# Altium schematic symbol library lib_ic_RES.SchLib: 25 symbols
Pins are listed as number, name and electrical type; pins without a type are passive.

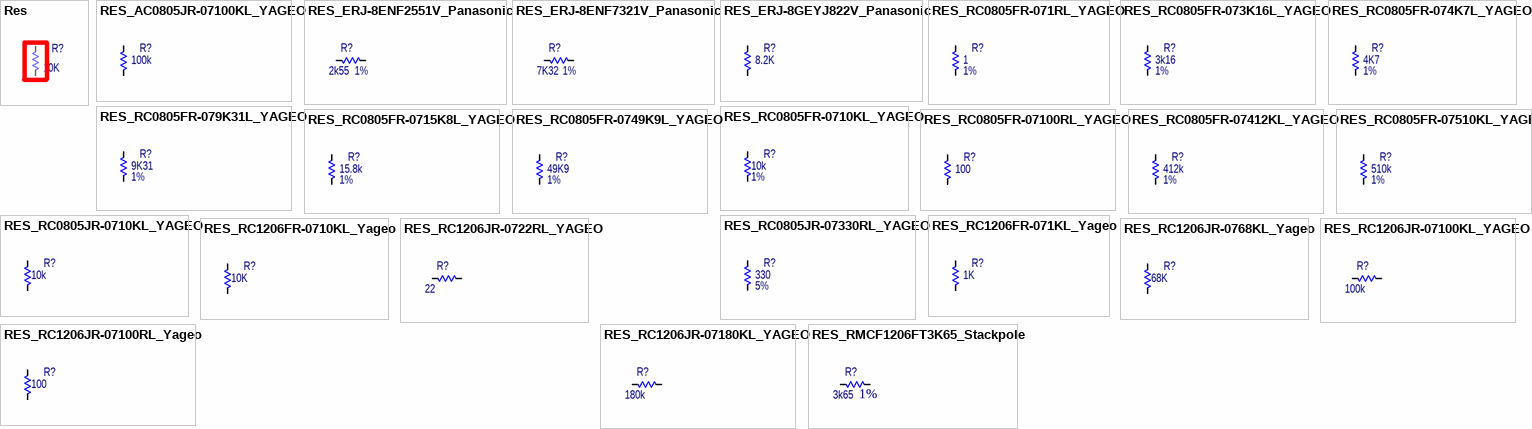
[diagram p0: symbols Res to RES_RMCF1206FT3K65_Stackpole]

## Res
designator R?  value 10K  (hidden comment: *)
Res; Manufacturer: Yageo; Tolerance: 1%; Power Rating: 1/4W; BOM Populate: *; Supplier Part No: *; Supplier: *; Digikey Part Number: 311-10.0KFRCT-ND
footprint RESC2013X065BN (Chip Resistor, 0805, Body 2.0x1.3mm, Pads modified for 1mm spacing.)
pins: 1 T1, 2 T2

## RES_AC0805JR-07100KL_YAGEO
designator R?  value 100k  (hidden comment: *)
RES SMD 100K OHM 5% 1/8W 0805; Manufacturer: Yageo; Manufacturer Part Number: AC0805JR-07100KL; BOM Populate: *; Supplier Part No: *; Supplier: *; Tolerance: 5%; Digikey Part Number: YAG3756CT-ND; Power Rating: 1/8W; Mouser Part Number: 603-AC0805JR-07100KL
footprint RESC2013X065BN (Chip Resistor, 0805, Body 2.0x1.3mm, Pads modified for 1mm spacing.)
pins: 1 T1, 2 T2

## RES_ERJ-8ENF2551V_Panasonic
designator R?  value 2k55  Tolerance: 1%  (hidden comment: *)
RES SMD 2.55K OHM 1% 1/4W 1206; Manufacturer: Panasonic; Manufacturer Part Number: ERJ-8ENF2551V; BOM Populate: *; Supplier Part No: *; Supplier: *; Digikey Part Number: P2.55KFCT-ND; Power Rating: 1/4W; Mouser Part Number: 667-ERJ-8ENF2551V
footprint RESC3216N (Chip Resistor, Body 3.2x1.6mm, IPC Medium Density)
pins: 1 T1, 2 T2

## RES_ERJ-8ENF7321V_Panasonic
designator R?  value 7K32  Tolerance: 1%  (hidden comment: *)
RES SMD 7.32K OHM 1% 1/4W 1206; Manufacturer: Panasonic; Manufacturer Part Number: ERJ-8ENF7321V; BOM Populate: *; Supplier Part No: *; Supplier: *; Digikey Part Number: P7.32KFCT-ND; Power Rating: 1/4W; Mouser Part Number: 667-ERJ-8ENF7321V
footprint RESC3216N (Chip Resistor, Body 3.2x1.6mm, IPC Medium Density)
pins: 1 T1, 2 T2

## RES_ERJ-8GEYJ822V_Panasonic
designator R?  value 8.2K  (hidden comment: *)
RES SMD 8.2K OHM 5% 1/4W 1206; Manufacturer: Panasonic; Manufacturer Part Number: ERJ-8GEYJ822V; BOM Populate: *; Supplier Part No: *; Supplier: *; Tolerance: 5%; Digikey Part Number: P8.2KECT-ND; Power Rating: 1/4W; Mouser Part Number: 667-ERJ-8GEYJ822V
footprint RESC3216N (Chip Resistor, Body 3.2x1.6mm, IPC Medium Density)
pins: 1 T1, 2 T2

## RES_RC0805FR-071RL_YAGEO
designator R?  value 1  Tolerance: 1%  (hidden comment: *)
RES SMD 1 OHM 1% 1/8W 0805; Manufacturer: Yageo; Manufacturer Part Number: RC0805FR-071RL; BOM Populate: *; Supplier Part No: *; Supplier: *; Digikey Part Number: 311-1.00CRCT-ND; Power Rating: 1/8W; Mouser Part Number: 603-RC0805FR-071RL
footprint RESC2013X065BN (Chip Resistor, 0805, Body 2.0x1.3mm, Pads modified for 1mm spacing.)
pins: 1 T1, 2 T2

## RES_RC0805FR-073K16L_YAGEO
designator R?  value 3k16  Tolerance: 1%  (hidden comment: *)
RES SMD 3.16K OHM 1% 1/8W 0805; Manufacturer: Yageo; Manufacturer Part Number: RC0805FR-073K16L; BOM Populate: *; Supplier Part No: *; Supplier: *; Digikey Part Number: 311-3.16KCRCT-ND; Power Rating: 1/8W; Mouser Part Number: 603-RC0805FR-073K16L
footprint RESC2013X065BN (Chip Resistor, 0805, Body 2.0x1.3mm, Pads modified for 1mm spacing.)
pins: 1 T1, 2 T2

## RES_RC0805FR-074K7L_YAGEO
designator R?  value 4K7  Tolerance: 1%  (hidden comment: *)
RES SMD 4.7K OHM 1% 1/8W 0805; Manufacturer: Yageo; Manufacturer Part Number: RC0805FR-074K7L; BOM Populate: *; Supplier Part No: *; Supplier: *; Digikey Part Number: 311-4.70KCRCT-ND; Power Rating: 1/8W; Mouser Part Number: 603-RC0805FR-074K7L
footprint RESC2013X065BN (Chip Resistor, 0805, Body 2.0x1.3mm, Pads modified for 1mm spacing.)
pins: 1 T1, 2 T2

## RES_RC0805FR-079K31L_YAGEO
designator R?  value 9K31  Tolerance: 1%  (hidden comment: *)
RES SMD 9.31K OHM 1% 1/8W 0805; Manufacturer: Yageo; Manufacturer Part Number: RC0805FR-079K31L; BOM Populate: *; Supplier Part No: *; Supplier: *; Digikey Part Number: 311-9.31KCRCT-ND; Power Rating: 1/8W; Mouser Part Number: 603-RC0805FR-079K31L
footprint RESC2013X065BN (Chip Resistor, 0805, Body 2.0x1.3mm, Pads modified for 1mm spacing.)
pins: 1 T1, 2 T2

## RES_RC0805FR-0710KL_YAGEO
designator R?  value 10k  Tolerance: 1%  (hidden comment: *)
RES SMD 10K OHM 1% 1/8W 0805; Manufacturer: Yageo; Manufacturer Part Number: RC0805FR-0710KL; BOM Populate: *; Supplier Part No: *; Supplier: *; Digikey Part Number: 311-10.0KCRCT-ND; Power Rating: 1/8W; Mouser Part Number: 603-RC0805FR-0710KL
footprint RESC2013X065BN (Chip Resistor, 0805, Body 2.0x1.3mm, Pads modified for 1mm spacing.)
pins: 1 T1, 2 T2

## RES_RC0805FR-0715K8L_YAGEO
designator R?  value 15.8k  Tolerance: 1%  (hidden comment: *)
RES SMD 15.8K OHM 1% 1/8W 0805; Manufacturer: Yageo; Manufacturer Part Number: RC0805FR-0715K8L; BOM Populate: *; Supplier Part No: *; Supplier: *; Digikey Part Number: 311-15.8KCRCT-ND; Power Rating: 1/8W; Mouser Part Number: 603-RC0805FR-0715K8L
footprint RESC2013X065BN (Chip Resistor, 0805, Body 2.0x1.3mm, Pads modified for 1mm spacing.)
pins: 1 T1, 2 T2

## RES_RC0805FR-0749K9L_YAGEO
designator R?  value 49K9  Tolerance: 1%  (hidden comment: *)
RES SMD 49.9K OHM 1% 1/8W 0805; Manufacturer: Yageo; Manufacturer Part Number: RC0805FR-0749K9L; BOM Populate: *; Supplier Part No: *; Supplier: *; Digikey Part Number: 311-49.9KCRCT-ND; Power Rating: 1/8W; Mouser Part Number: 603-RC0805FR-0749K9L
footprint RESC2013X065BN (Chip Resistor, 0805, Body 2.0x1.3mm, Pads modified for 1mm spacing.)
pins: 1 T1, 2 T2

## RES_RC0805FR-07100RL_YAGEO
designator R?  value 100  (hidden comment: *)
RES SMD 100 OHM 1% 1/8W 0805; Manufacturer: Yageo; Manufacturer Part Number: RC0805FR-07100RL; BOM Populate: *; Supplier Part No: *; Supplier: *; Tolerance: 1%; Digikey Part Number: 311-100CRCT-ND; Power Rating: 1/8W; Mouser Part Number: 603-RC0805FR-07100RL
footprint RESC2013X065BN (Chip Resistor, 0805, Body 2.0x1.3mm, Pads modified for 1mm spacing.)
pins: 1 T1, 2 T2

## RES_RC0805FR-07412KL_YAGEO
designator R?  value 412k  Tolerance: 1%  (hidden comment: *)
RES SMD 412K OHM 1% 1/8W 0805; Manufacturer: Yageo; Manufacturer Part Number: RC0805FR-07412KL; BOM Populate: *; Supplier Part No: *; Supplier: *; Digikey Part Number: 311-412KCRCT-ND; Power Rating: 1/8W; Mouser Part Number: 603-RC0805FR-07412KL
footprint RESC2013X065BN (Chip Resistor, 0805, Body 2.0x1.3mm, Pads modified for 1mm spacing.)
pins: 1 T1, 2 T2

## RES_RC0805FR-07510KL_YAGEO
designator R?  value 510k  Tolerance: 1%  (hidden comment: *)
RES SMD 510K OHM 1% 1/8W 0805; Manufacturer: Yageo; Manufacturer Part Number: RC0805FR-07510KL; BOM Populate: *; Supplier Part No: *; Supplier: *; Digikey Part Number: 311-510KCRCT-ND; Power Rating: 1/8W; Mouser Part Number: 603-RC0805FR-07510KL
footprint RESC2013X065BN (Chip Resistor, 0805, Body 2.0x1.3mm, Pads modified for 1mm spacing.)
pins: 1 T1, 2 T2

## RES_RC0805JR-0710KL_YAGEO
designator R?  value 10k  (hidden comment: *)
RES SMD 10K OHM 5% 1/8W 0805; Manufacturer: Yageo; Manufacturer Part Number: RC0805JR-0710KL; BOM Populate: *; Supplier Part No: *; Supplier: *; Tolerance: 5%; Digikey Part Number: 311-10KARCT-ND; Power Rating: 1/8W; Mouser Part Number: 603-RC0805JR-0710KL
footprint RESC2013X065BN (Chip Resistor, 0805, Body 2.0x1.3mm, Pads modified for 1mm spacing.)
pins: 1 T1, 2 T2

## RES_RC0805JR-07330RL_YAGEO
designator R?  value 330  Tolerance: 5%  (hidden comment: *)
RES SMD 330 OHM 5% 1/8W 0805; Manufacturer: Yageo; Manufacturer Part Number: RC0805JR-07330RL; BOM Populate: *; Supplier Part No: *; Supplier: *; Digikey Part Number: 311-330ARCT-ND; Power Rating: 1/8W; Mouser Part Number: 603-RC0805JR-07330RL
footprint RESC2013X065BN (Chip Resistor, 0805, Body 2.0x1.3mm, Pads modified for 1mm spacing.)
pins: 1 T1, 2 T2

## RES_RC1206FR-071KL_Yageo
designator R?  value 1K  (hidden comment: *)
RES SMD 1K OHM 1% 1/4W 1206; Manufacturer: Yageo; Manufacturer Part Number: RC1206FR-071KL; BOM Populate: *; Supplier Part No: *; Supplier: *; Tolerance: 1%; Digikey Part Number: 311-1.00KFRCT-ND; Power Rating: 1/4W; Mouser Part Number: 603-RC1206FR-071KL
footprint RESC3216N (Chip Resistor, Body 3.2x1.6mm, IPC Medium Density)
pins: 1 T1, 2 T2

## RES_RC1206FR-0710KL_Yageo
designator R?  value 10K  (hidden comment: *)
RES SMD 10K OHM 1% 1/4W 1206; Manufacturer: Yageo; Manufacturer Part Number: RC1206FR-0710KL; BOM Populate: *; Supplier Part No: *; Supplier: *; Tolerance: 1%; Digikey Part Number: 311-10.0KFRCT-ND; Power Rating: 1/4W; Mouser Part Number: 603-RC1206FR-0710KL
footprint RESC3216N (Chip Resistor, Body 3.2x1.6mm, IPC Medium Density)
pins: 1 T1, 2 T2

## RES_RC1206JR-0722RL_YAGEO
designator R?  value 22  (hidden comment: *)
RES SMD 22 OHM 5% 1/4W 1206; Manufacturer: YAGEO; Manufacturer Part Number: RC1206JR-0722RL; BOM Populate: *; Digikey Part Number: 311-22ERCT-ND; Power Rating: 1/4W; Mouser Part Number: 603-RC1206JR-0722RL; Tolerance: 5%
footprint RESC3216N (Chip Resistor, Body 3.2x1.6mm, IPC Medium Density)
pins: 1 T1, 2 T2

## RES_RC1206JR-0768KL_Yageo
designator R?  value 68K  (hidden comment: *)
RES SMD 68K OHM 5% 1/4W 1206; Manufacturer: Yageo; Manufacturer Part Number: RC1206JR-0768KL; BOM Populate: *; Supplier Part No: *; Supplier: *; Tolerance: 5%; Digikey Part Number: 311-68KERCT-ND; Power Rating: 1/4W; Mouser Part Number: 603-RC1206JR-0768KL
footprint RESC3216N (Chip Resistor, Body 3.2x1.6mm, IPC Medium Density)
pins: 1 T1, 2 T2

## RES_RC1206JR-07100KL_YAGEO
designator R?  value 100k  (hidden comment: *)
RES SMD 100K OHM 5% 1/4W 1206; Manufacturer: YAGEO; Manufacturer Part Number: RC1206JR-07100KL; BOM Populate: *; Digikey Part Number: 311-100KERCT-ND; Power Rating: 1/4W; Mouser Part Number: 603-RC1206JR-07100KL; Tolerance: 5%
footprint RESC3216N (Chip Resistor, Body 3.2x1.6mm, IPC Medium Density)
pins: 1 T1, 2 T2

## RES_RC1206JR-07100RL_Yageo
designator R?  value 100  (hidden comment: *)
RES SMD 100 OHM 5% 1/4W 1206; Manufacturer: Yageo; Manufacturer Part Number: RC1206JR-07100RL; BOM Populate: *; Supplier Part No: *; Supplier: *; Tolerance: 5%; Digikey Part Number: 311-100ERCT-ND; Power Rating: 1/4W; Mouser Part Number: 603-RC1206JR-07100RL
footprint RESC3216N (Chip Resistor, Body 3.2x1.6mm, IPC Medium Density)
pins: 1 T1, 2 T2

## RES_RC1206JR-07180KL_YAGEO
designator R?  value 180k  (hidden comment: *)
RES SMD 180K OHM 5% 1/4W 1206; Manufacturer: YAGEO; Manufacturer Part Number: RC1206JR-07180KL; BOM Populate: *; Digikey Part Number: 311-180KERCT-ND; Power Rating: 1/4W; Mouser Part Number: 603-RC1206JR-07180KL; Tolerance: 5%
footprint RESC3216N (Chip Resistor, Body 3.2x1.6mm, IPC Medium Density)
pins: 1 T1, 2 T2

## RES_RMCF1206FT3K65_Stackpole
designator R?  value 3k65  Tolerance: 1%  (hidden comment: *)
RES SMD 3.65K OHM 1% 1/4W 1206; Manufacturer: Stackpole; BOM Populate: *; Supplier Part No: *; Supplier: *; Digikey Part Number: RMCF1206FT3K65DKR-ND; Power Rating: 1/4W; Manufacturer Part Number: *; Mouser Part Number: *
footprint RESC3216N (Chip Resistor, Body 3.2x1.6mm, IPC Medium Density)
pins: 1 T1, 2 T2